# Altium schematic symbol library SamacSys.SchLib: 2 symbols
Pins are listed as number, name and electrical type; pins without a type are passive.

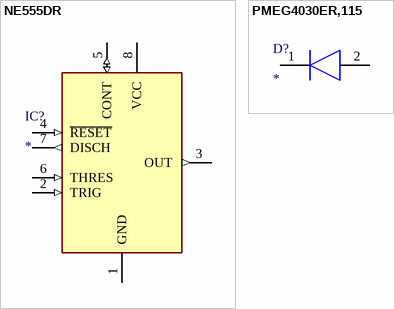
[diagram p0: symbols NE555DR to PMEG4030ER,115]

## NE555DR
designator IC?
Integrated Circuit; Manufacturer_Name: Texas Instruments; Manufacturer_Part_Number: NE555DR; Datasheet Link: http://www.ti.com/lit/ds/symlink/ne555.pdf; Height: 1.75mm; Mouser Part Number: 595-NE555DR; Mouser Price/Stock: https://www.mouser.com/Search/Refine.aspx?Keyword=595-NE555DR; RS Part Number: 1218414; RS Price/Stock: http://uk.rs-online.com/web/p/products/1218414
footprint SOIC127P600X175-8N
pins: 1 GND (power), 2 TRIG (in), 3 OUT (out), 4 ~{RESET} (in), 5 CONT (io), 6 THRES (in), 7 DISCH (out), 8 VCC (power)

## PMEG4030ER,115
designator D?
Diode; Manufacturer_Name: Nexperia; Manufacturer_Part_Number: PMEG4030ER,115; Description: Schottky Diodes & Rectifiers SCHOTTKY RECT 40V 3A; Datasheet Link: https://componentsearchengine.com//PMEG4030ER,115.pdf; Height: 1.1mm; Mouser2 Part Number: 771-PMEG4030ER115; Mouser2 Price/Stock: https://www.mouser.com/Search/Refine.aspx?Keyword=771-PMEG4030ER115
footprint SODFL3517X110N
pins: 1 K, 2 A